# EAGLE library part AMP-1241150-12 (library jason-test)
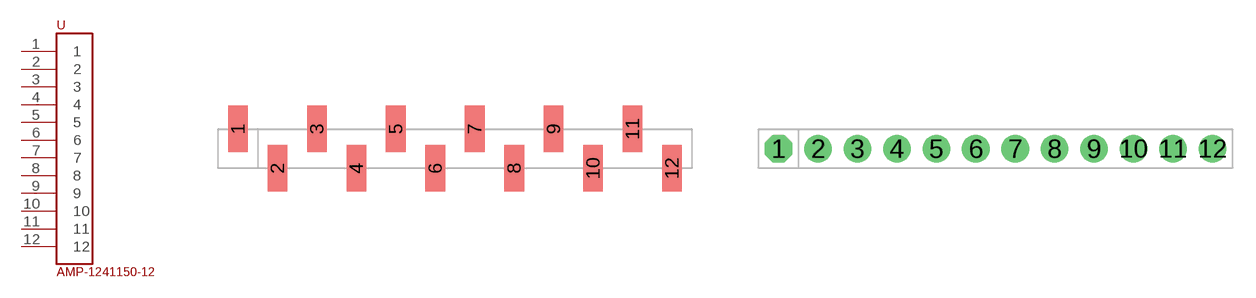
[diagram p29: symbol with the pads of AMP-1241150-12; footprints AMP-1241150-12, AMP-1241150-12T]

Designator prefix -

## AMP-1241150-12SMT  [AMP-1241150-12]
1  1
2  2
3  3
4  4
5  5
6  6
7  7
8  8
9  9
10  10
11  11
12  12

## AMP-1241150-12TH  [AMP-1241150-12T]
Pads as for AMP-1241150-12

## Footprint AMP-1241150-12 (pad centres in mm)
smd 1.27 x 3: 1 -13.97,1.27; 2 -11.43,-1.27; 3 -8.89,1.27; 4 -6.35,-1.27; 5 -3.81,1.27; 6 -1.27,-1.27; 7 1.27,1.27; 8 3.81,-1.27; 9 6.35,1.27; 10 8.89,-1.27; 11 11.43,1.27; 12 13.97,-1.27

## Footprint AMP-1241150-12T (pad centres in mm)
drill 1 pad 1.778 octagon: 1 -13.97,0
drill 1 pad 1.778 round: 2 -11.43,0; 3 -8.89,0; 4 -6.35,0; 5 -3.81,0; 6 -1.27,0; 7 1.27,0; 8 3.81,0; 9 6.35,0; 10 8.89,0; 11 11.43,0; 12 13.97,0